# EAGLE library part ESP8266E01 (library simple-parts)
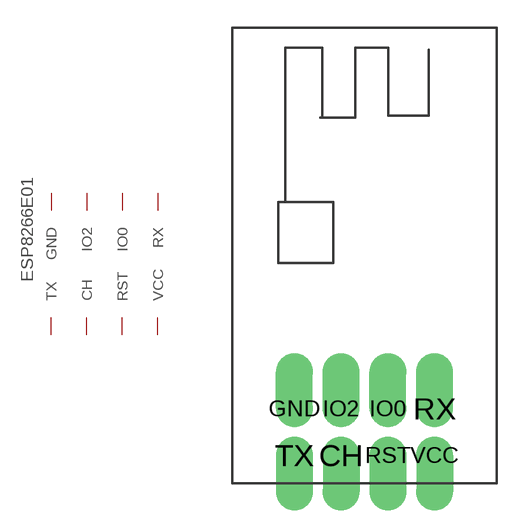
[diagram p0: symbol with the pads of ESP8266E01; footprint ESP8266E01]

Designator prefix ESP8266E01

## ESP8266E01ESP8266E01  [ESP8266E01]
CH  CH
GND  GND
IO0  IO0
IO2  IO2
RST  RST
RX  RX
TX  TX
VCC  VCC

## Footprint ESP8266E01 (pad centres in mm)
drill 0.9 pad 2 offset: CH -1.27,-1.27; GND -3.81,1.27; IO0 1.27,1.27; IO2 -1.27,1.27; RST 1.27,-1.27; RX 3.81,1.27; TX -3.81,-1.27; VCC 3.81,-1.27